# Altium schematic symbol library NPN_TO92.SchLib: 1 symbol
Pins are listed as number, name and electrical type; pins without a type are passive.

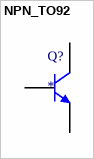
[diagram p0: symbol NPN_TO92]

## NPN_TO92
designator Q?
pins: 1 E, 2 B, 3 C